# Altium schematic symbol library SCH - MEMORY - SPANSION FLASH SPI 8PIN_DP.SCHLIB: 1 symbol
Pins are listed as number, name and electrical type; pins without a type are passive.

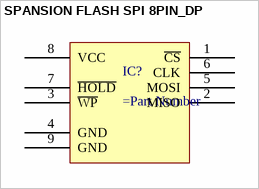
[diagram p0: symbol SPANSION FLASH SPI 8PIN_DP]

## SPANSION FLASH SPI 8PIN_DP
designator IC?
pins: 1 ~{CS}, 2 MISO, 3 ~{WP}, 4 GND, 5 MOSI, 6 CLK, 7 ~{HOLD}, 8 VCC, 9 GND